# EAGLE library part NPM1100-CAAA-R (library NPM1100-CAAA-R)
NPM1100 POWER MANAGEMENT IC Source: Datasheet <https://infocenter.nordicsemi.com/pdf/nPM1100_PS_v1.0.pdf>
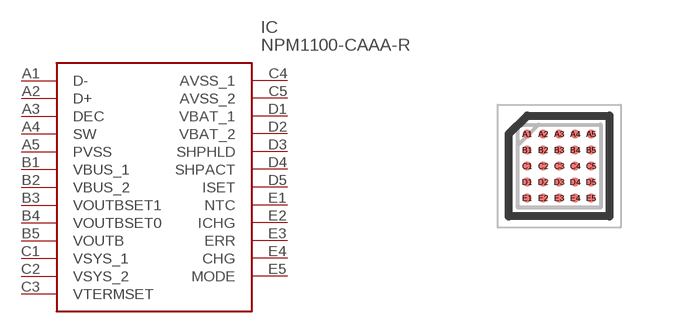
[diagram p0: symbol with the pads of BGA25C40P5X5_208X208X52; footprint BGA25C40P5X5_208X208X52]

Designator prefix IC

## NPM1100-CAAA-R (Arrow_Part_Number: NPM1100-CAAA-R; Arrow_Price-Stock: https://www.arrow.com/en/products/npm1100-caaa-r/nordic-semiconductor?region=nac; Description: NPM1100 POWER MANAGEMENT IC; Height: 0.522mm; Manufacturer_Name: Nordic Semiconductor; Manufacturer_Part_Number: NPM1100-CAAA-R; Mouser_Part_Number: 949-NPM1100-CAAA-R; Mouser_Price-Stock: https://www.mouser.co.uk/ProductDetail/Nordic-Semiconductor/nPM1100-CAAA-R?qs=TuK3vfAjtkX6Y1svXvOxyA%3D%3D)  [BGA25C40P5X5_208X208X52]
A1  D-
A2  D+
A3  DEC
A4  SW
A5  PVSS
B1  VBUS_1
B2  VBUS_2
B3  VOUTBSET1
B4  VOUTBSET0
B5  VOUTB
C1  VSYS_1
C2  VSYS_2
C3  VTERMSET
C4  AVSS_1
C5  AVSS_2
D1  VBAT_1
D2  VBAT_2
D3  SHPHLD
D4  SHPACT
D5  ISET
E1  NTC
E2  ICHG
E3  ERR
E4  CHG
E5  MODE

## Footprint BGA25C40P5X5_208X208X52 (pad centres in mm)
WLCSP 2.075x2.075
smd 0.221 x 0.221: A1 -0.8,0.8; A2 -0.4,0.8; A3 0,0.8; A4 0.4,0.8; A5 0.8,0.8; B1 -0.8,0.4; B2 -0.4,0.4; B3 0,0.4; B4 0.4,0.4; B5 0.8,0.4; C1 -0.8,0; C2 -0.4,0; C3 0,0; C4 0.4,0; C5 0.8,0; D1 -0.8,-0.4; D2 -0.4,-0.4; D3 0,-0.4; D4 0.4,-0.4; D5 0.8,-0.4; E1 -0.8,-0.8; E2 -0.4,-0.8; E3 0,-0.8; E4 0.4,-0.8; E5 0.8,-0.8